# EAGLE library part LIS3MDLTR (library Accelerometers)
The LIS3MDL is an ultra-low-power highperformance three-axis magnetic sensor. The LIS3MDL has user-selectable full scales of ±4/8/12/16 gauss. The self-test capability allows the user to check the functioning of the sensor in the final application. The device may be configured to generate interrupt signals for magnetic field detection. The LIS3MDL includes an I2C serial bus interface that supports standard and fast mode (100 kHz and 400 kHz) and SPI serial standard interface. The LIS3MDL is available in a small thin plastic land grid array package (LGA) and is guaranteed to operate over an extended temperature range of -40 °C to +85 °C.
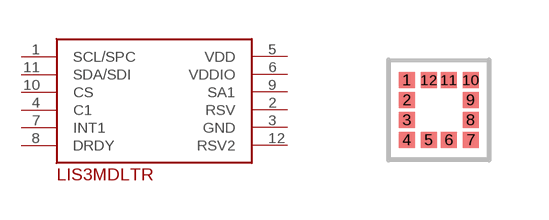
[diagram p5: symbol with the pads of LGA-12; footprint LGA-12]

Designator prefix -

## LIS3MDLTR  [LGA-12]
1  SCL/SPC
2  RSV
3  GND
4  C1
5  VDD
6  VDDIO
7  INT1
8  DRDY
9  SA1
10  CS
11  SDA/SDI
12  RSV2

## Footprint LGA-12 (pad centres in mm)
LGA-12
smd 0.4 x 0.4: 1 -0.8,0.75; 2 -0.8,0.25; 3 -0.8,-0.25; 4 -0.8,-0.75; 5 -0.25,-0.75; 6 0.25,-0.75; 7 0.8,-0.75; 8 0.8,-0.25; 9 0.8,0.25; 10 0.8,0.75; 11 0.25,0.75; 12 -0.25,0.75